# EAGLE library part MA06-1-0.05 (library LaunchPad)
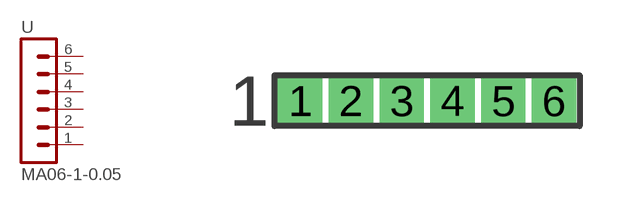
[diagram p0: symbol with the pads of MA06-1-0.05; footprint MA06-1-0.05]

Designator prefix -

## MA06-1-0.05  [MA06-1-0.05]
1  1  pas
2  2  pas
3  3  pas
4  4  pas
5  5  pas
6  6  pas

## Footprint MA06-1-0.05 (pad centres in mm)
drill 0.6 pad 1.016 square: 1 -3.175,0; 2 -1.905,0; 3 -0.635,0; 4 0.635,0; 5 1.905,0; 6 3.175,0